# Altium footprint library LED.PcbLib: 35 footprints (part 2 of 3)
Each footprint in its own frame and in the unit in brackets; x right, y up, seen from the top. Pads: shape width x height; smd on the part's side, far side on the other; paste and mask are expansions set on the pad; w line width, h text height; cw(c..) or ccw(c..) is an arc to the next point about the centre after c.
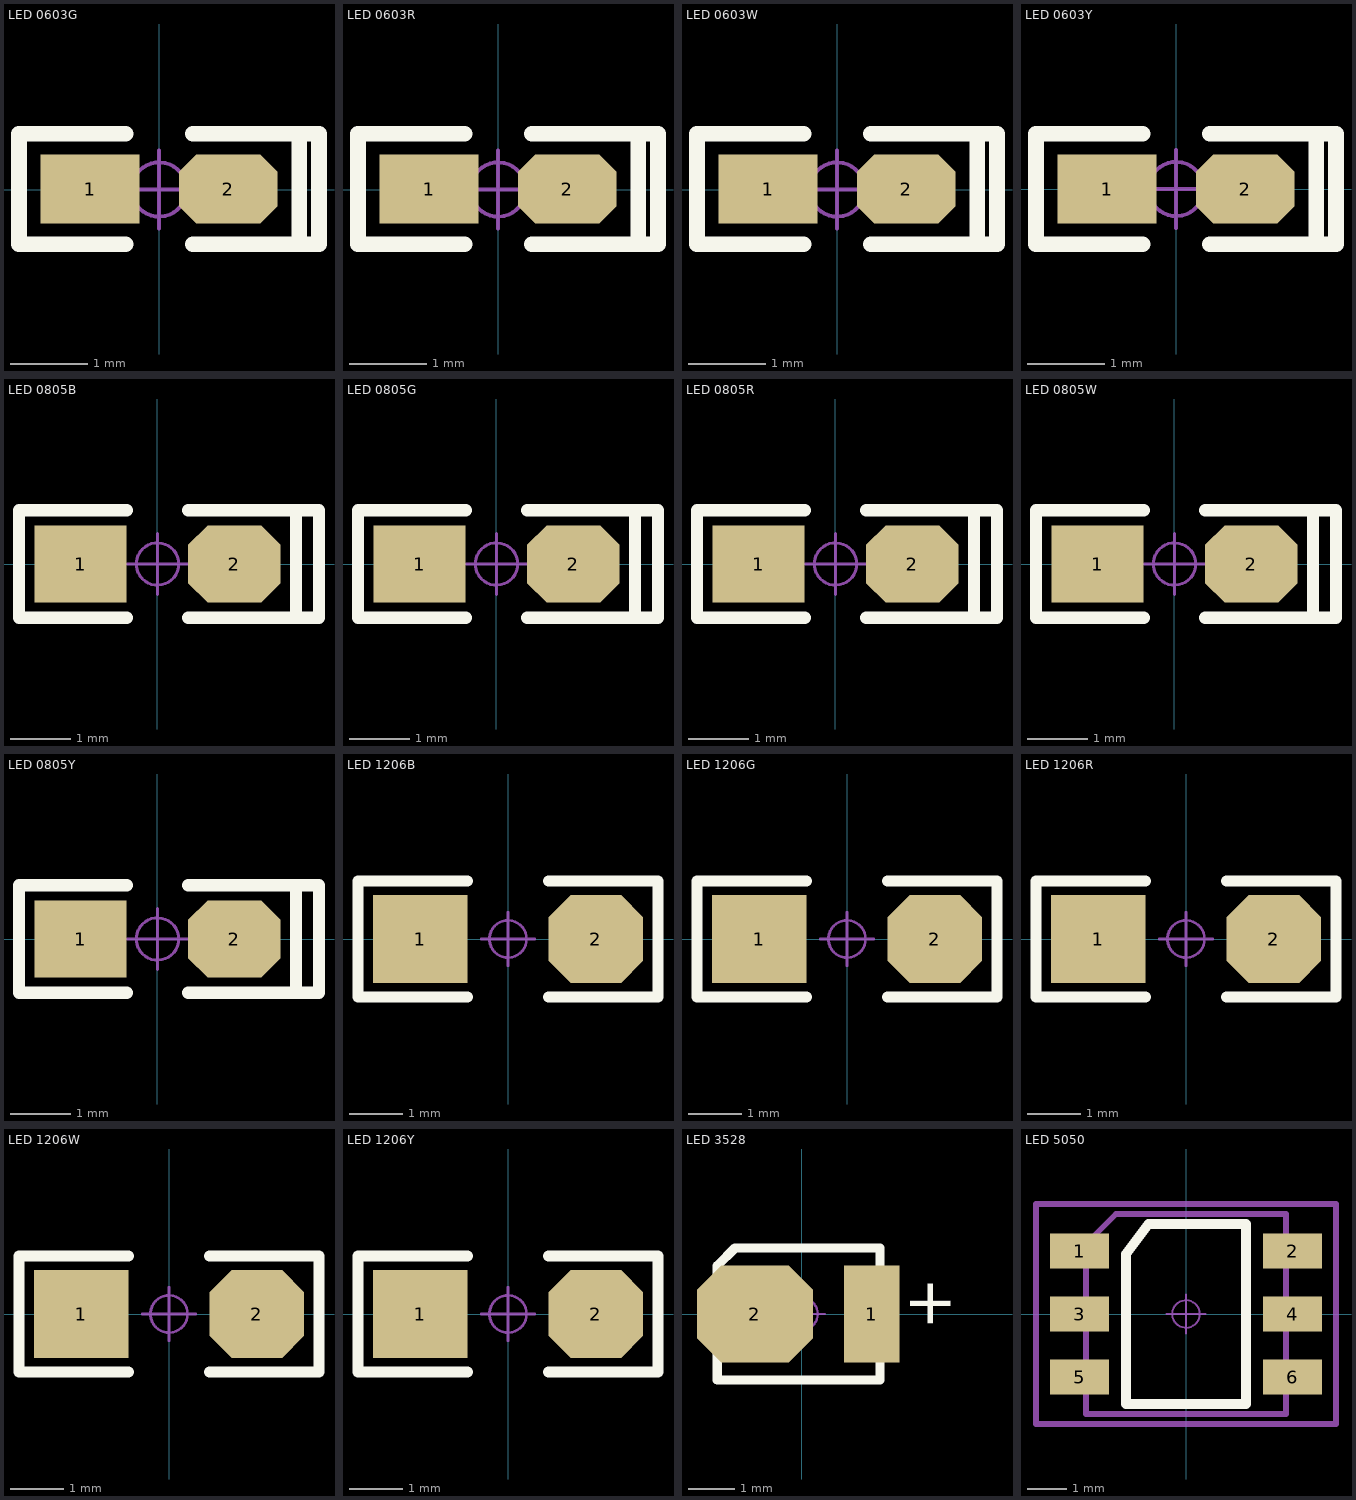
[diagram p1: the footprints below, top view; thin cyan lines are the x and y axes]

## LED 0603G [mil] "绿色0603LED"
pads (2):
  rect 50x35 smd: 1(-35,0.26)
  oct 50x35 smd: 2(35,0.26)
Top Overlay:
  lines w8: -17,-27.74 -71,-27.74 -71,-25.74 -71,28.26 -70,28.26 -17,28.26 ; 17,-27.74 70,-27.74 ; 17,28.26 71,28.26 81,28.26 81,-27.74 71,-27.74 71,26.26
Mechanical 15:
  circle w1.97: c0,0 r13.78
  lines w1.97: -19.68,0 19.68,0 ; 0,-19.68 0,19.68
3D body: height 23.82, standoff 8.07, extent -23.58,-15.79 23.58,15.79
3D body: height 18.36, standoff -0.16, extent -31.49,-15.79 31.5,15.79

## LED 0603R [mil] "红色0603LED"
pads (2):
  rect 50x35 smd: 1(-35,0.26)
  oct 50x35 smd: 2(35,0.26)
Top Overlay:
  lines w8: -17,-27.74 -71,-27.74 -71,-25.74 -71,28.26 -70,28.26 -17,28.26 ; 17,-27.74 70,-27.74 ; 17,28.26 71,28.26 81,28.26 81,-27.74 71,-27.74 71,26.26
Mechanical 15:
  circle w1.97: c0,0 r13.78
  lines w1.97: -19.68,0 19.68,0 ; 0,-19.68 0,19.68
3D body: height 18.36, standoff -0.16, extent -31.49,-15.79 31.5,15.79
3D body: height 23.82, standoff 8.07, extent -23.58,-15.79 23.58,15.79

## LED 0603W [mil] "白色0603LED"
pads (2):
  rect 50x35 smd: 1(-35,0.26)
  oct 50x35 smd: 2(35,0.26)
Top Overlay:
  lines w8: -17,-27.74 -71,-27.74 -71,-25.74 -71,28.26 -70,28.26 -17,28.26 ; 17,-27.74 70,-27.74 ; 17,28.26 71,28.26 81,28.26 81,-27.74 71,-27.74 71,26.26
Mechanical 15:
  circle w1.97: c0,0 r13.78
  lines w1.97: -19.68,0 19.68,0 ; 0,-19.68 0,19.68
3D body: height 18.36, standoff -0.16, extent -31.49,-15.79 31.5,15.79
3D body: height 23.82, standoff 8.07, extent -23.58,-15.79 23.58,15.79

## LED 0603Y [mil] "黄色0603LED"
pads (2):
  rect 50x35 smd: 1(-35,0)
  oct 50x35 smd: 2(35,0)
Top Overlay:
  lines w8: -17,-28 -71,-28 -71,-26 -71,28 -70,28 -17,28 ; 17,-28 70,-28 ; 17,28 71,28 81,28 81,-28 71,-28 71,26
Mechanical 15:
  circle w1.97: c0,0 r13.78
  lines w1.97: -19.68,0 19.68,0 ; 0,-19.68 0,19.68
3D body: height 23.82, standoff 8.07, extent -23.58,-15.79 23.58,15.79
3D body: height 18.36, standoff -0.16, extent -31.5,-16.04 31.49,15.53

## LED 0805B [mil] "蓝色0805LED"
pads (2):
  rect 60x50 smd: 1(-50,0)
  oct 60x50 smd: 2(50,0)
Top Overlay:
  lines w8: -20,-35 -90,-35 -90,35 -20,35 ; 20,-35 105,-35 105,35 20,35 ; 90,-35 90,35
Mechanical 15:
  circle w1.97: c0,0 r13.78
  lines w1.97: -19.68,0 19.68,0 ; 0,-19.68 0,19.68
3D body: height 26.33, standoff -0.16, extent -39.37,-24.65 39.37,24.65
3D body: height 31.69, standoff 12.01, extent -29.49,-24.65 29.49,24.65

## LED 0805G [mil] "绿色0805LED"
pads (2):
  rect 60x50 smd: 1(-50,0)
  oct 60x50 smd: 2(50,0)
Top Overlay:
  lines w8: -20,-35 -90,-35 -90,35 -20,35 ; 20,-35 105,-35 105,35 20,35 ; 90,-35 90,35
Mechanical 15:
  circle w1.97: c0,0 r13.78
  lines w1.97: -19.68,0 19.68,0 ; 0,-19.68 0,19.68
3D body: height 26.33, standoff -0.16, extent -39.37,-24.65 39.37,24.65
3D body: height 31.69, standoff 12.01, extent -29.49,-24.65 29.49,24.65

## LED 0805R [mil] "红色0805LED"
pads (2):
  rect 60x50 smd: 1(-50,0)
  oct 60x50 smd: 2(50,0)
Top Overlay:
  lines w8: -20,-35 -90,-35 -90,35 -20,35 ; 20,-35 105,-35 105,35 20,35 ; 90,-35 90,35
Mechanical 15:
  circle w1.97: c0,0 r13.78
  lines w1.97: -19.68,0 19.68,0 ; 0,-19.68 0,19.68
3D body: height 31.69, standoff 12.01, extent -29.49,-24.65 29.49,24.65
3D body: height 26.33, standoff -0.16, extent -39.37,-24.65 39.37,24.64

## LED 0805W [mil] "白色0805LED"
pads (2):
  rect 60x50 smd: 1(-50,0)
  oct 60x50 smd: 2(50,0)
Top Overlay:
  lines w8: -20,-35 -90,-35 -90,35 -20,35 ; 20,-35 105,-35 105,35 20,35 ; 90,-35 90,35
Mechanical 15:
  circle w1.97: c0,0 r13.78
  lines w1.97: -19.68,0 19.68,0 ; 0,-19.68 0,19.68
3D body: height 26.33, standoff -0.16, extent -39.37,-24.65 39.37,24.64
3D body: height 31.69, standoff 12.01, extent -29.49,-24.65 29.49,24.65

## LED 0805Y [mil] "黄色0805LED"
pads (2):
  rect 60x50 smd: 1(-50,0)
  oct 60x50 smd: 2(50,0)
Top Overlay:
  lines w8: -20,-35 -90,-35 -90,35 -20,35 ; 20,-35 105,-35 105,35 20,35 ; 90,-35 90,35
Mechanical 15:
  circle w1.97: c0,0 r13.78
  lines w1.97: -19.68,0 19.68,0 ; 0,-19.68 0,19.68
3D body: height 26.33, standoff -0.16, extent -39.37,-24.65 39.37,24.65
3D body: height 31.69, standoff 12.01, extent -29.49,-24.65 29.49,24.65

## LED 1206B [mil] "蓝色1206LED"
pads (2):
  rect 70x65 smd: 1(-65,0)
  oct 70x65 smd: 2(65,0)
Top Overlay:
  lines w8: -30,-43 -111,-43 -111,43 -109,43 -30,43 ; 30,-43 109,-43 ; 30,43 111,43 111,-43
Mechanical 15:
  circle w1.97: c0,0 r13.78
  lines w1.97: -19.68,0 19.68,0 ; 0,-19.68 0,19.68
3D body: height 35.58, standoff -0.16, extent -63.03,-31.54 63.03,31.54
3D body: height 39.57, standoff 19.88, extent -44.33,-31.54 44.33,31.54

## LED 1206G [mil] "绿色1206LED"
pads (2):
  rect 70x65 smd: 1(-65,0)
  oct 70x65 smd: 2(65,0)
Top Overlay:
  lines w8: -30,-43 -111,-43 -111,43 -109,43 -30,43 ; 30,-43 109,-43 ; 30,43 111,43 111,-43
Mechanical 15:
  circle w1.97: c0,0 r13.78
  lines w1.97: -19.68,0 19.68,0 ; 0,-19.68 0,19.68
3D body: height 35.58, standoff -0.16, extent -63.03,-31.54 63.03,31.54
3D body: height 39.57, standoff 19.88, extent -44.33,-31.54 44.33,31.54

## LED 1206R [mil] "红色1206LED"
pads (2):
  rect 70x65 smd: 1(-65,0)
  oct 70x65 smd: 2(65,0)
Top Overlay:
  lines w8: -30,-43 -111,-43 -111,43 -109,43 -30,43 ; 30,-43 109,-43 ; 30,43 111,43 111,-43
Mechanical 15:
  circle w1.97: c0,0 r13.78
  lines w1.97: -19.68,0 19.68,0 ; 0,-19.68 0,19.68
3D body: height 39.57, standoff 19.88, extent -44.33,-31.54 44.33,31.54
3D body: height 35.58, standoff -0.16, extent -63.03,-31.54 63.03,31.54

## LED 1206W [mil] "白色1206LED"
pads (2):
  rect 70x65 smd: 1(-65,0)
  oct 70x65 smd: 2(65,0)
Top Overlay:
  lines w8: -30,-43 -111,-43 -111,43 -109,43 -30,43 ; 30,-43 109,-43 ; 30,43 111,43 111,-43
Mechanical 15:
  circle w1.97: c0,0 r13.78
  lines w1.97: -19.68,0 19.68,0 ; 0,-19.68 0,19.68
3D body: height 39.57, standoff 19.88, extent -44.33,-31.54 44.33,31.54
3D body: height 35.58, standoff -0.16, extent -63.03,-31.54 63.03,31.54

## LED 1206Y [mil] "黄色1206LED"
pads (2):
  rect 70x65 smd: 1(-65,0)
  oct 70x65 smd: 2(65,0)
Top Overlay:
  lines w8: -30,-43 -111,-43 -111,43 -109,43 -30,43 ; 30,-43 109,-43 ; 30,43 111,43 111,-43
Mechanical 15:
  circle w1.97: c0,0 r13.78
  lines w1.97: -19.68,0 19.68,0 ; 0,-19.68 0,19.68
3D body: height 39.57, standoff 19.88, extent -44.33,-31.54 44.33,31.54
3D body: height 35.58, standoff -0.16, extent -63.03,-31.54 63.03,31.54

## LED 3528 [mm] "红色3528LED"
pads (2):
  rect 1.2x2.1 smd: 1(1.511,0)
  oct 2.5x2.1 smd: 2(-1.003,0)
Top Overlay:
  lines w0.2: -1.816,-1.422 -1.816,1.041 -1.435,1.422 1.689,1.422 1.689,-1.422 -1.816,-1.422
  text "+" at 3.213,-0.356 h1
Mechanical 15:
  circle w0.05: c0,0 r0.35
  lines w0.05: -0.5,0 0.5,0 ; 0,-0.5 0,0.5
3D body: height 1.95, standoff 0.05, extent -1.75,-1.4 1.75,1.4
3D body: height 1.95, standoff 1.2, extent -1.195,-1.195 1.195,1.195

## LED 5050 [mm] "白色5050LED"
pads (6):
  rect 1.5x0.9 smd: 1(-2.705,1.6) 2(2.705,1.6) 3(-2.705,0) 4(2.705,0) 5(-2.705,-1.6) 6(2.705,-1.6)
Top Overlay:
  lines w0.254: -1.524,-2.286 -1.524,1.524 -0.953,2.286 1.524,2.286 1.524,-2.286 -1.524,-2.286
Mechanical 13:
  lines w0.15: -2.54,-2.54 -2.54,1.778 -1.778,2.54 2.54,2.54 2.54,-2.54 -2.54,-2.54
Mechanical 15:
  circle w0.05: c0,0 r0.35
  lines w0.05: -0.5,0 0.5,0 ; 0,-0.5 0,0.5
  lines w0.15: -3.81,-2.794 -3.81,2.794 3.81,2.794 3.81,-2.794 -3.81,-2.794
3D body: height 1.65, standoff 0.05, extent -2.7,-2.5 2.7,2.5
3D body: height 1.65, standoff 0.67, extent -1.995,-1.995 1.995,1.995